# EAGLE library part NOKIA (library nokia_6100)
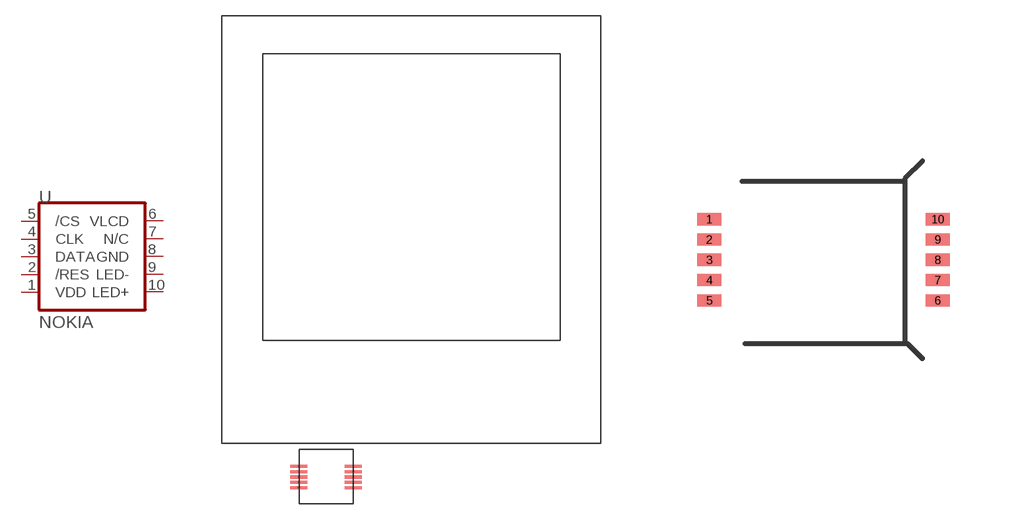
[diagram p0: symbol with the pads of NOKIA_LCD; footprints NOKIA_LCD, NOKIA]

Designator prefix -

## NOKIA  [NOKIA_LCD]
1  VDD
2  /RES
3  DATA
4  CLK
5  /CS
6  VLCD
7  N/C
8  GND
9  LED-
10  LED+

## NOKIA1  [NOKIA]
Pads as for NOKIA_LCD

## NOKIA2  [NOKIA_CONNECTOR]
Pads as for NOKIA_LCD

## Footprint NOKIA_LCD (pad centres in mm)
smd 1.6 x 0.3: 1 -3.935,-27.801; 2 -3.935,-27.301; 3 -3.935,-26.801; 4 -3.935,-26.301; 5 -3.935,-25.801; 6 -9.069,-25.793; 7 -9.069,-26.293; 8 -9.069,-26.793; 9 -9.069,-27.293; 10 -9.069,-27.793

## Footprint NOKIA (pad centres in mm)
smd 0.61 x 0.305: 1 -2.603,1.905; 2 -2.603,1.397; 3 -2.603,0.889; 4 -2.603,0.381; 5 -2.603,-0.127; 6 3.111,-0.127; 7 3.111,0.381; 8 3.111,0.889; 9 3.111,1.397; 10 3.111,1.905

## Footprint NOKIA_CONNECTOR (pad centres in mm)
smd 1.6 x 0.3: 1 -2.415,1.131; 2 -2.415,0.631; 3 -2.415,0.131; 4 -2.415,-0.369; 5 -2.415,-0.869; 6 2.719,-0.877; 7 2.719,-0.377; 8 2.719,0.123; 9 2.719,0.623; 10 2.719,1.123